# Altium footprint library Thermistor TH.PcbLib: 2 footprints
Each footprint in its own frame and in the unit in brackets; x right, y up, seen from the top. Pads: shape width x height; smd on the part's side, far side on the other; paste and mask are expansions set on the pad; w line width, h text height; cw(c..) or ccw(c..) is an arc to the next point about the centre after c.
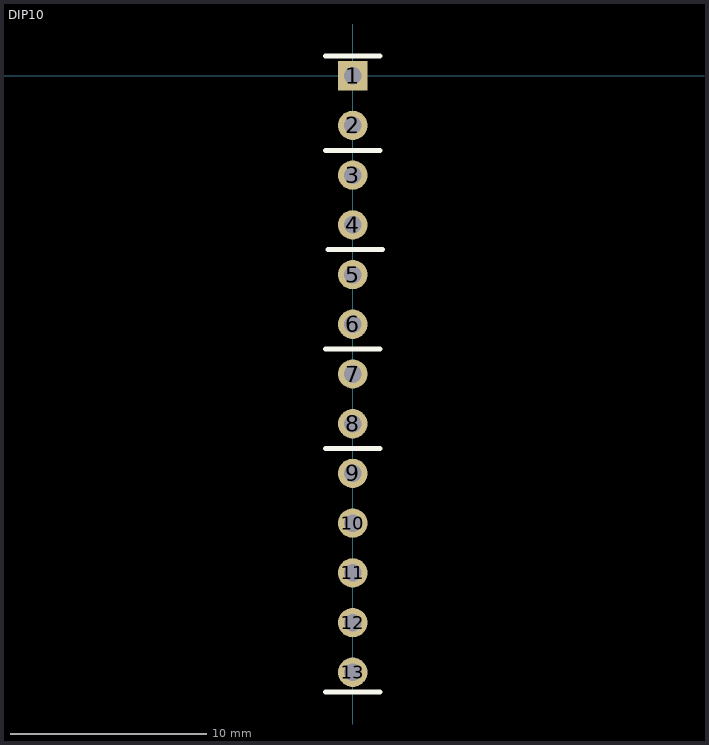
[diagram p0: the footprints below, top view; thin cyan lines are the x and y axes]

## DIP10 [mm]
pads (13):
  rect 1.5x1.5 hole 0.9: 1(0,0)
  round 1.5 hole 0.9: 2(0,-2.54) 3(0,-5.08) 4(0,-7.62) 5(0,-10.16) 6(0,-12.7) 7(0,-15.24) 8(0,-17.78) 9(0,-20.32) 10(0,-22.86) 11(0,-25.4) 12(0,-27.94) 13(0,-30.48)
Top Overlay:
  lines w0.254: -1.397,-31.496 1.397,-31.496 ; -1.397,-19.05 1.397,-19.05 ; -1.397,-13.97 1.397,-13.97 ; -1.397,-3.81 1.397,-3.81 ; -1.397,1.016 1.397,1.016 ; -1.27,-8.89 1.524,-8.89

## PCBComponent_1 [mm]